# Altium footprint library 老主板.PcbLib: 27 footprints (part 1 of 2)
Each footprint in its own frame and in the unit in brackets; x right, y up, seen from the top. Pads: shape width x height; smd on the part's side, far side on the other; paste and mask are expansions set on the pad; w line width, h text height; cw(c..) or ccw(c..) is an arc to the next point about the centre after c.
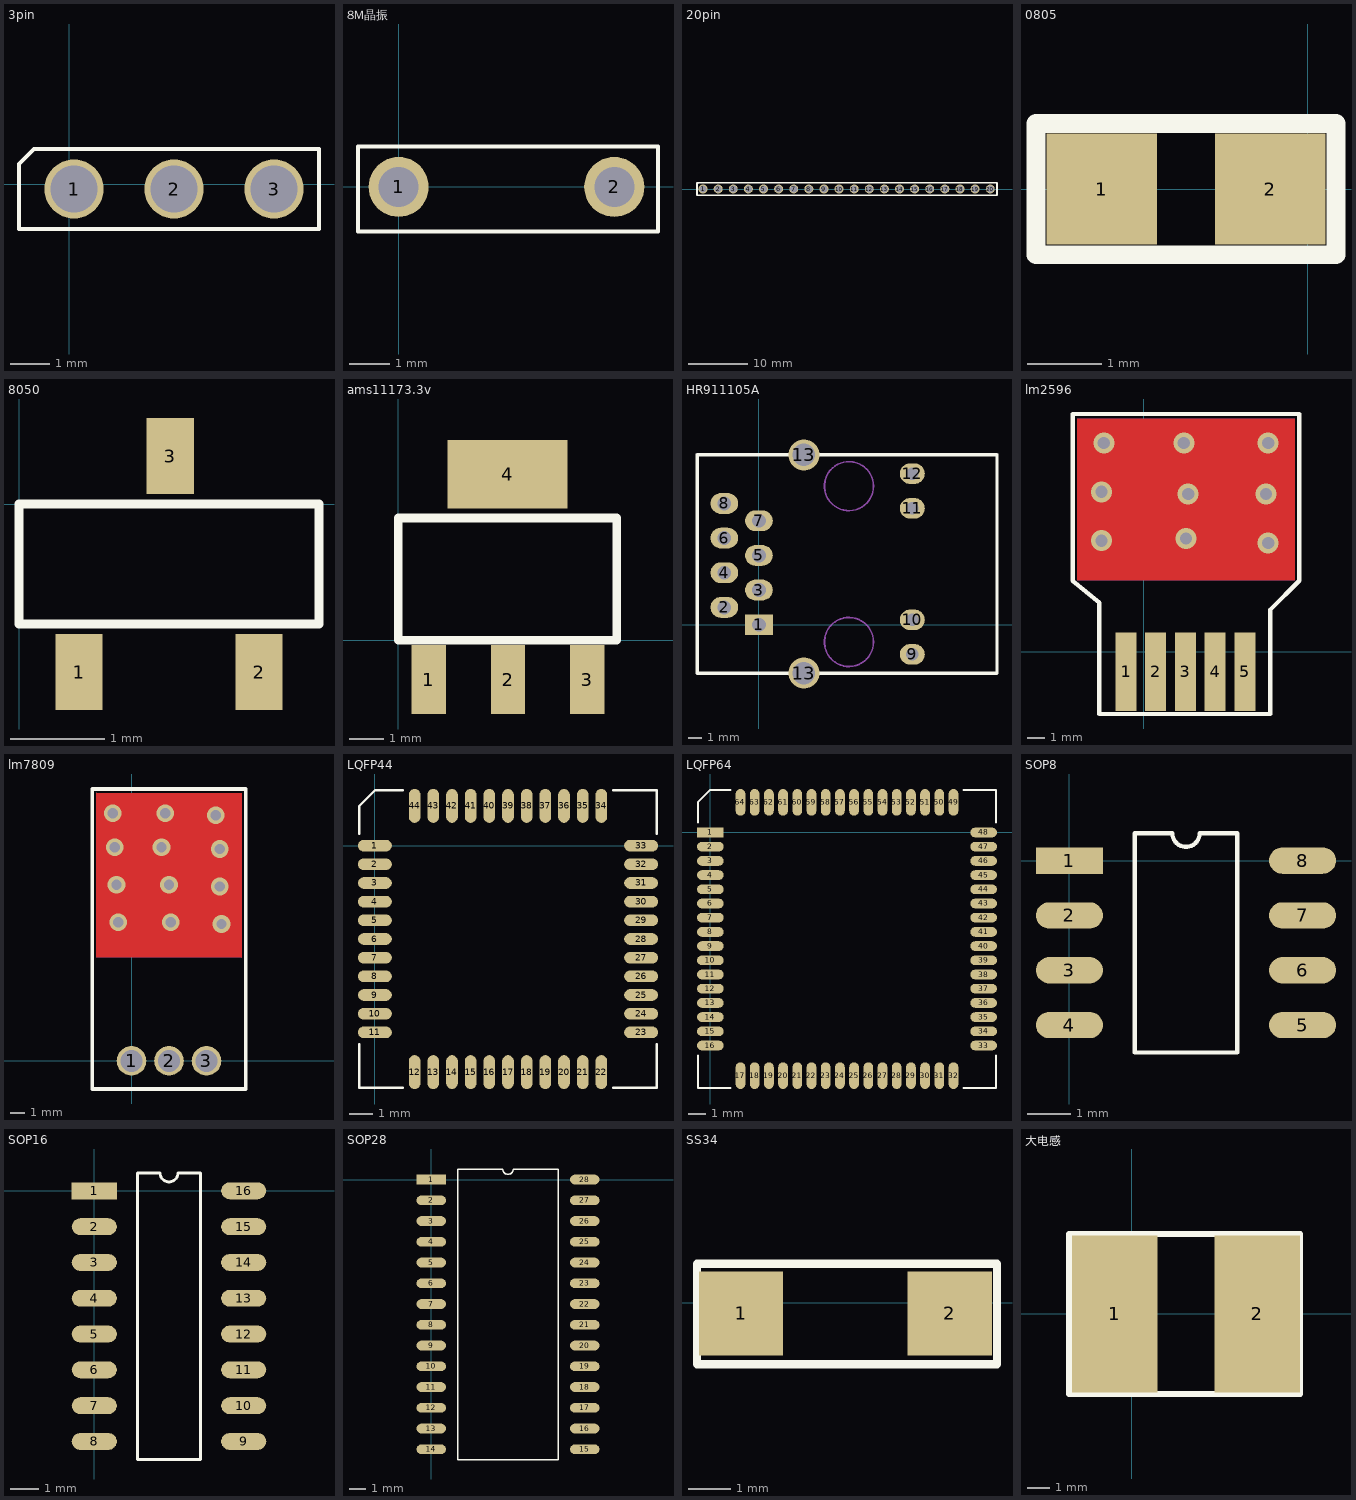
[diagram p0: the footprints below, top view; thin cyan lines are the x and y axes]

## 3pin [mm]
pads (3):
  round 1.5 hole 1.2: 1(0.127,-0.127) 2(2.667,-0.127) 3(5.207,-0.127)
Top Overlay:
  lines w0.1: -1.27,0.508 -0.889,0.889 ; -1.27,0.508 -1.27,-1.143 6.35,-1.143 6.35,0.889 -0.889,0.889 ; -1.27,0.508 -0.889,0.889

## 8M晶振 [mm]
pads (2):
  round 1.5 hole 1: 1(0,0) 2(5.385,0)
Top Overlay:
  lines w0.1: -1.016,-1.118 6.477,-1.118 6.477,1.016 -1.016,1.016 -1.016,-1.118

## 20pin [mm]
pads (20):
  round 1.5 hole 1.2: 1(5.08,0) 2(7.62,0) 3(10.16,0) 4(12.7,0) 5(15.24,0) 6(17.78,0) 7(20.32,0) 8(22.86,0) 9(25.4,0) 10(27.94,0) 11(30.48,0) 12(33.02,0) 13(35.56,0) 14(38.1,0) 15(40.64,0) 16(43.18,0) 17(45.72,0) 18(48.26,0) 19(50.8,0) 20(53.34,0)
Top Overlay:
  lines w0.254: 4.064,0.762 4.318,1.016 ; 4.064,-1.016 4.064,1.016 39.116,1.016 54.483,1.016 54.483,-1.016 39.116,-1.016 4.064,-1.016

## 0805 [mm]
pads (2):
  rect 1.5x1.5 smd: 1(-2.794,0) 2(-0.508,0)
Top Overlay:
  lines w0.254: -3.683,-0.889 -3.683,0.889 0.381,0.889 0.381,-0.889 -3.429,-0.889 -3.683,-0.889

## 8050 [mm]
pads (3):
  rect 0.5x0.8 smd: 1(0.635,-1.778) 2(2.54,-1.778) 3(1.6,0.508)
Top Overlay:
  lines w0.1: 0,-1.27 0,0 3.175,0 3.175,-1.27 0,-1.27

## ams11173.3v [mm]
pads (4):
  rect 1x2 smd: 1(0.889,-1.143) 2(3.189,-1.143) 3(5.489,-1.143)
  rect 3.5x2 smd: 4(3.175,4.826)
Top Overlay:
  lines w0.254: 0,0 6.35,0 6.35,3.556 0,3.556 0,0

## HR911105A [mil]
pads (14):
  rect 80x60 hole 40: 1(0,0)
  oval 80x60 hole 40: 2(-100,50) 3(0,100) 4(-100,150) 5(0,200) 6(-100,250) 7(0,300) 8(-100,350)
  oval 72x60 hole 36: 9(442.91,-85.63) 10(442.91,14) 11(442.91,335.87) 12(442.91,436)
  round 90 hole 65: 13(129.92,-139.76) 13(129.92,490.16)
Top Overlay:
  lines w10: -178.74,-140 -178.5,-139.76 ; -178.74,490 -178.58,490.16 ; -178.58,490.16 -178.58,-139.69 -178.5,-139.76 ; -178.58,490.16 129.92,490.16 687.24,490.16 687.4,490 687.4,-140 687.17,-139.76 129.92,-139.76 -178.5,-139.76
Mechanical 1:
  circle w5: c260,-50 r70.8
  circle w5: c260,400 r70.8

## lm2596 [mm]
pads (5):
  rect 1.2x4.5 smd: 1(-1.016,-1.143) 2(0.684,-1.143) 3(2.384,-1.143) 4(4.084,-1.143) 5(5.784,-1.143)
via -2.286,11.938 diameter 1.2 hole 0.7
via 2.286,11.938 diameter 1.2 hole 0.7
via 7.112,11.938 diameter 1.2 hole 0.7
via -2.413,9.144 diameter 1.2 hole 0.7
via 2.54,9.017 diameter 1.2 hole 0.7
via 6.985,9.017 diameter 1.2 hole 0.7
via -2.413,6.35 diameter 1.2 hole 0.7
via 2.413,6.477 diameter 1.2 hole 0.7
via 7.112,6.223 diameter 1.2 hole 0.7
Top Layer:
  rectangle: -3.81,4.064 8.636,13.335
Bottom Layer:
  rectangle: -3.81,4.064 8.636,13.335
Top Overlay:
  lines w0.254: -4.064,4.064 -4.064,13.589 8.89,13.589 8.89,4.064 7.239,2.413 7.239,-3.556 -2.54,-3.556 -2.54,2.794 -4.064,4.064
Top Solder:
  rectangle: -3.81,4.064 8.636,13.335
  rectangle: -3.81,4.064 8.636,13.335
  rectangle: -3.81,4.064 8.636,13.335
Bottom Solder:
  rectangle: -3.81,4.064 8.636,13.335

## lm7809 [mm]
pads (3):
  round 2 hole 1.5: 1(0,0) 2(2.54,0) 3(5.08,0)
via -0.889,9.398 diameter 1.2 hole 0.7
via 2.667,9.398 diameter 1.2 hole 0.7
via 6.096,9.271 diameter 1.2 hole 0.7
via -1.016,11.938 diameter 1.2 hole 0.7
via 2.54,11.938 diameter 1.2 hole 0.7
via 5.969,11.811 diameter 1.2 hole 0.7
via -1.143,14.478 diameter 1.2 hole 0.7
via 2.032,14.478 diameter 1.2 hole 0.7
via 5.969,14.351 diameter 1.2 hole 0.7
via 5.715,16.637 diameter 1.2 hole 0.7
via 2.286,16.764 diameter 1.2 hole 0.7
via -1.27,16.764 diameter 1.2 hole 0.7
Top Layer:
  rectangle: -2.413,6.985 7.493,18.161
Bottom Layer:
  rectangle: -2.413,6.985 7.493,18.161
Top Overlay:
  lines w0.254: 7.62,-1.905 -2.667,-1.905 -2.667,18.415 7.747,18.415 7.747,-1.905
Top Solder:
  rectangle: -2.413,6.985 7.493,18.161

## LQFP44 [mm]
pads (44):
  oval 1.45x0.5 smd: 1(0,0) 2(0,-0.8) 3(0,-1.6) 4(0,-2.4) 5(0,-3.2) 6(0,-4) 7(0,-4.8) 8(0,-5.6) 9(0,-6.4) 10(0,-7.2) 11(0,-8) 23(11.4,-8) 24(11.4,-7.2) 25(11.4,-6.4) 26(11.4,-5.6) 27(11.4,-4.8) 28(11.4,-4) 29(11.4,-3.2) 30(11.4,-2.4) 31(11.4,-1.6) 32(11.4,-0.8) 33(11.4,0)
  oval 0.5x1.45 smd: 12(1.7,-9.7) 13(2.5,-9.7) 14(3.3,-9.7) 15(4.1,-9.7) 16(4.9,-9.7) 17(5.7,-9.7) 18(6.5,-9.7) 19(7.3,-9.7) 20(8.1,-9.7) 21(8.9,-9.7) 22(9.7,-9.7) 34(9.7,1.7) 35(8.9,1.7) 36(8.1,1.7) 37(7.3,1.7) 38(6.5,1.7) 39(5.7,1.7) 40(4.9,1.7) 41(4.1,1.7) 42(3.3,1.7) 43(2.5,1.7) 44(1.7,1.7)
Top Overlay:
  lines w0.1: -0.675,-8.5 -0.675,-10.375 1.2,-10.375 ; -0.675,0.5 -0.675,1.7 0,2.375 1.2,2.375 ; 10.2,-10.375 12.075,-10.375 12.075,-8.5 ; 10.2,2.375 12.075,2.375 12.075,0.5

## LQFP64 [mm]
pads (64):
  rect 1.5x0.55 smd: 1(0,0)
  oval 1.5x0.55 smd: 2(0,-0.8) 3(0,-1.6) 4(0,-2.4) 5(0,-3.2) 6(0,-4) 7(0,-4.8) 8(0,-5.6) 9(0,-6.4) 10(0,-7.2) 11(0,-8) 12(0,-8.8) 13(0,-9.6) 14(0,-10.4) 15(0,-11.2) 16(0,-12) 33(15.4,-12) 34(15.4,-11.2) 35(15.4,-10.4) 36(15.4,-9.6) 37(15.4,-8.8) 38(15.4,-8) 39(15.4,-7.2) 40(15.4,-6.4) 41(15.4,-5.6) 42(15.4,-4.8) 43(15.4,-4) 44(15.4,-3.2) 45(15.4,-2.4) 46(15.4,-1.6) 47(15.4,-0.8) 48(15.4,0)
  oval 0.55x1.5 smd: 17(1.7,-13.7) 18(2.5,-13.7) 19(3.3,-13.7) 20(4.1,-13.7) 21(4.9,-13.7) 22(5.7,-13.7) 23(6.5,-13.7) 24(7.3,-13.7) 25(8.1,-13.7) 26(8.9,-13.7) 27(9.7,-13.7) 28(10.5,-13.7) 29(11.3,-13.7) 30(12.1,-13.7) 31(12.9,-13.7) 32(13.7,-13.7) 49(13.7,1.7) 50(12.9,1.7) 51(12.1,1.7) 52(11.3,1.7) 53(10.5,1.7) 54(9.7,1.7) 55(8.9,1.7) 56(8.1,1.7) 57(7.3,1.7) 58(6.5,1.7) 59(5.7,1.7) 60(4.9,1.7) 61(4.1,1.7) 62(3.3,1.7) 63(2.5,1.7) 64(1.7,1.7)
Top Overlay:
  lines w0.1: -0.7,-12.55 -0.7,-14.4 1.15,-14.4 ; -0.7,0.55 -0.7,1.7 0,2.4 1.15,2.4 ; 14.25,-14.4 16.1,-14.4 16.1,-12.55 ; 14.25,2.4 16.1,2.4 16.1,0.55

## SOP8 [mil]
pads (8):
  rect 61x24 smd: 1(0,0)
  oval 61x24 smd: 2(0,-50) 3(0,-100) 4(0,-150) 5(212.6,-150) 6(212.6,-100) 7(212.6,-50) 8(212.6,0)
Top Overlay:
  lines w4: 59.5,-175 153.1,-175 153.1,25 118.8,25 cw(c106.3,25) 93.8,25 59.5,25 59.5,-175

## SOP16 [mm]
pads (16):
  rect 1.6x0.6 smd: 1(0,0)
  oval 1.6x0.6 smd: 2(0,-1.27) 3(0,-2.54) 4(0,-3.81) 5(0,-5.08) 6(0,-6.35) 7(0,-7.62) 8(0,-8.89) 9(5.3,-8.89) 10(5.3,-7.62) 11(5.3,-6.35) 12(5.3,-5.08) 13(5.3,-3.81) 14(5.3,-2.54) 15(5.3,-1.27) 16(5.3,0)
Top Overlay:
  lines w0.1: 1.535,-9.525 1.535,0.635 2.332,0.635 ccw(c2.65,0.635) 2.967,0.635 3.765,0.635 3.765,-9.525 1.535,-9.525

## SOP28 [mm]
pads (28):
  rect 1.8x0.6 smd: 1(0,0)
  oval 1.8x0.6 smd: 2(0,-1.27) 3(0,-2.54) 4(0,-3.81) 5(0,-5.08) 6(0,-6.35) 7(0,-7.62) 8(0,-8.89) 9(0,-10.16) 10(0,-11.43) 11(0,-12.7) 12(0,-13.97) 13(0,-15.24) 14(0,-16.51) 15(9.4,-16.51) 16(9.4,-15.24) 17(9.4,-13.97) 18(9.4,-12.7) 19(9.4,-11.43) 20(9.4,-10.16) 21(9.4,-8.89) 22(9.4,-7.62) 23(9.4,-6.35) 24(9.4,-5.08) 25(9.4,-3.81) 26(9.4,-2.54) 27(9.4,-1.27) 28(9.4,0)
Top Overlay:
  lines w0.1: 1.635,-17.145 7.765,-17.145 7.765,0.635 5.017,0.635 cw(c4.7,0.635) 4.382,0.635 1.635,0.635 1.635,-17.145

## SS34 [mm]
pads (2):
  rect 2x2 smd: 1(5.207,-0.254) 2(10.16,-0.254)
Top Overlay:
  lines w0.2: 4.163,-1.457 4.163,-0.076 4.163,0.924 11.281,0.924 11.281,-1.457 4.163,-1.457

## 大电感 [mm]
pads (2):
  rect 3.8x7 smd: 1(-0.762,0) 2(5.588,0)
Top Overlay:
  lines w0.254: -2.794,-3.556 7.493,-3.556 7.493,3.556 -2.794,3.556 -2.794,-3.556